# Altium schematic symbol library SchLib_AirMeter.SchLib: 49 symbols
Pins are listed as number, name and electrical type; pins without a type are passive.

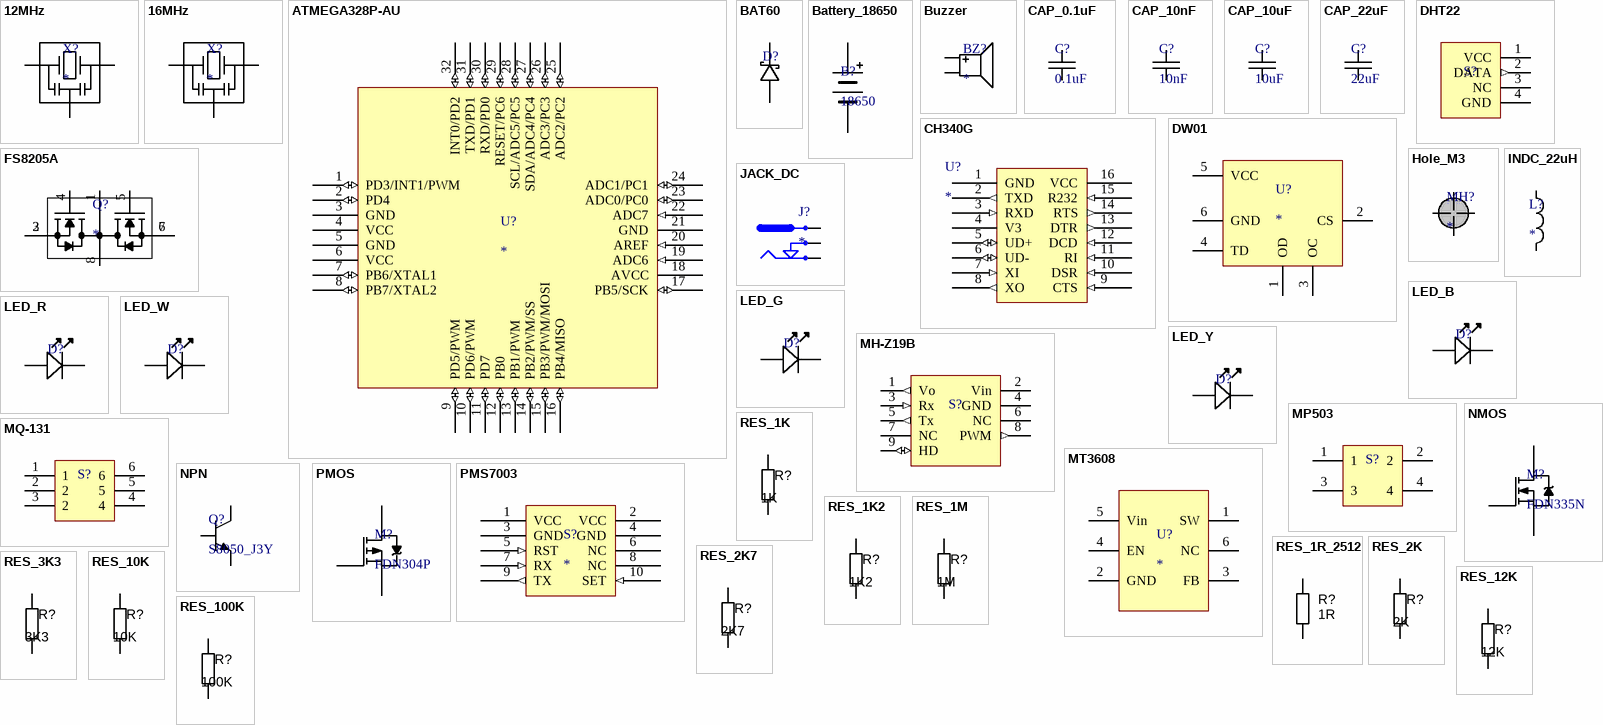
[diagram p0: symbols 12MHz to RES_100K]

## 12MHz
designator X?
Crystal Oscillator
footprint XTAL_3.2x1.6
pins: 1 IN, 2 GND, 3 OUT

## 16MHz
designator X?
Crystal Oscillator
footprint XTAL_3.2x1.6
pins: 1 IN, 2 GND, 3 OUT

## ATMEGA328P-AU
designator U?
footprint ATMEGA328P-AU
pins: 1 PD3/INT1/PWM (io), 2 PD4 (io), 3 GND (power), 4 VCC (power), 5 GND (power), 6 VCC (power), 7 PB6/XTAL1 (io), 8 PB7/XTAL2 (io), 9 PD5/PWM (io), 10 PD6/PWM (io), 11 PD7 (io), 12 PB0 (io), 13 PB1/PWM (io), 14 PB2/PWM/SS (io), 15 PB3/PWM/MOSI (io), 16 PB4/MISO (io), 17 PB5/SCK (io), 18 AVCC (power), 19 ADC6 (in), 20 AREF (in), 21 GND (power), 22 ADC7 (in), 23 ADC0/PC0 (io), 24 ADC1/PC1 (io), 25 ADC2/PC2 (io), 26 ADC3/PC3 (io), 27 SDA/ADC4/PC4 (io), 28 SCL/ADC5/PC5 (io), 29 RESET/PC6 (io), 30 RXD/PD0 (io), 31 TXD/PD1 (io), 32 INT0/PD2 (io)

## BAT60
designator D?
Schottky Diode 3A, Vf~0.24V, Vr=10V
footprint SOD323 (SOD-323; 2 Leads; Body 1.8 x 1.35 mm, (LxW))
pins: A, K

## Battery_18650
designator B?, comment 18650
footprint BAT_18650
pins: 1 B+ (power), 2 B+ (power)

## Buzzer
designator BZ?
Buzzer passive 5 VAC
footprint BZ_12085 (Passive Buzzer 12x8.5)
pins: 1 Positive, 2 Negative

## CAP_0.1uF
designator C?, comment 0.1uF
SMD 0805
footprint CAP_0805
pins: 1, 2

## CAP_10nF
designator C?, comment 10nF
SMD 0805
footprint CAP_0805
pins: 1, 2

## CAP_10uF
designator C?, comment 10uF
SMD 0805
footprint CAP_0805
pins: 1, 2

## CAP_22uF
designator C?, comment 22uF
SMD 1206
footprint CAP_1206
pins: 1, 2

## CH340G
designator U?
footprint CH340G
pins: 1 GND (power) "Ground reference of the chip.", 2 TXD (out) "UART data transmit output", 3 RXD (in) "UART data receive input.", 4 V3 (power) "Internal 3.3V reference fot USB physical layer. Decouple with a 4.7-20nF capacitor when in 5V operation, or tie to VCC when in 3.3V operation", 5 UD+ (io) "USB D+ signal.", 6 UD- (io) "UBS D- signal.", 7 XI (in) "Input of the crystal osctillator. Connect to the crystal resonator and load capacitors.", 8 XO (out) "Output of the crystal osctillator. Connect to the crystal resonator and load capacitors.", 9 CTS (in) "UART flow control signal Clear to Send", 10 DSR (in) "UART flow control signal Data Set Ready.", 11 RI (in) "UART flow control signal Ring In.", 12 DCD (in) "UART flow control signal Data Carrier Detect", 13 DTR (out) "UART flow control signal Data Terminal Ready.", 14 RTS (out) "UART flow control signal Request to Send", 15 R232 (in) "Auxiliary RS232 enable. Active high, internal pull down.", 16 VCC (power) "Supply rail for the chip."

## DHT22
designator S?
footprint DHT22
pins: 1 VCC (power), 2 DATA (out), 3 NC (power), 4 GND (power)

## DW01
designator U?
footprint SOT23-6
pins: 1 OD (power), 2 CS (power), 3 OC (power), 4 TD (power), 5 VCC (power), 6 GND (power)

## FS8205A
designator Q?
NMOS, Drain-Connected, Imax 6A
footprint TSSOP65P640X120-8N (TSSOP, 8 Leads, Body 3.1x4.5mm (max), Pitch 0.65mm, IPC Medium Density)
pins: 1 D12, 2 S1, 3 S1, 4 G1, 5 G2, 6 S1, 7 S1, 8 D12

## Hole_M3
designator MH?
footprint Hole_M3
pins: MH

## INDC_22uH
designator L?
footprint IND_10x10
pins: 1, 2

## JACK_DC
designator J?
footprint DC-004
pins: 1, 2, 3

## LED_B
designator D?
SMD_0805 3V
footprint LED_0805
pins: A, K

## LED_G
designator D?
SMD_0805 3V
footprint LED_0805
pins: A, K

## LED_R
designator D?
SMD_0805 2V
footprint LED_0805
pins: A, K

## LED_W
designator D?
SMD_0805 3V
footprint LED_0805
pins: A, K

## LED_Y
designator D?
SMD_0805 2.4V
footprint LED_0805
pins: A, K

## MH-Z19B
designator S?
CO2 Sensor
footprint MH-Z19B CO2 Sensor
pins: 1 Vo (out), 2 Vin (power), 3 Rx (in), 4 GND (power), 5 Tx (out), 6 NC, 7 NC, 8 PWM (out), 9 HD (io)

## MP503
designator S?
VOC Sensor
footprint MP503 VOC Sensor
pins: 1, 2, 3, 4

## MQ-131
designator S?
Ozone Sensor
footprint MQ-131 Ozone Sensor
pins: 1, 2, 3 2, 4, 5, 6

## MT3608
designator U?
Boost Converter
footprint SOT23-6
pins: 1 SW (power), 2 GND (power), 3 FB (power), 4 EN (power), 5 Vin (power), 6 NC (power)

## NMOS
designator M?, comment FDN335N
footprint SOT23_213
pins: 1 G, 2 S, 3 D

## NPN
designator Q?, comment S8050_J3Y
footprint SOT23_213
pins: 1 B, 2 E, 3 C

## PMOS
designator M?, comment FDN304P
footprint SOT23_213
pins: 1 G, 2 S, 3 D

## PMS7003
designator S?
Particle air sensor. 1um, 2.5um, 10um
footprint PMS7003
pins: 1 VCC (power), 2 VCC (power), 3 GND (power), 4 GND (power), 5 RST (in), 6 NC, 7 RX (in), 8 NC, 9 TX (out), 10 SET (in)

## RES_1K
designator R?, comment 1K
Resistor SMD, 1206; Value: N/A
footprint RESC3216X70N (Chip Resistor, Body 3.2x1.6mm, EIA 1206, IPC Medium Density)
pins: 1, 2

## RES_1K2
designator R?, comment 1K2
Resistor SMD, 1206; Value: N/A
footprint RESC3216X70N (Chip Resistor, Body 3.2x1.6mm, EIA 1206, IPC Medium Density)
pins: 1, 2

## RES_1M
designator R?, comment 1M
Resistor SMD, 1206; Value: N/A
footprint RESC3216X70N (Chip Resistor, Body 3.2x1.6mm, EIA 1206, IPC Medium Density)
pins: 1, 2

## RES_1R_2512
designator R?  value 1R  (hidden comment: *)
Resistor SMD 1Ω ±5% 2W ±400ppm/℃ 2512; Ratings: 1W; SCDType: spec; Tolerance: ±5%; Material: Thick Film; Package / Case: 2512 (6332 metric)
footprint RESC6332X70N (Chip Resistor, Body 6.3x3.2mm, 2512, IPC Medium Density)
pins: 1, 2

## RES_2K
designator R?, comment 2K
Resistor SMD, 1206; Value: N/A
footprint RESC3216X70N (Chip Resistor, Body 3.2x1.6mm, EIA 1206, IPC Medium Density)
pins: 1, 2

## RES_2K7
designator R?, comment 2K7
Resistor SMD, 1206; Value: N/A
footprint RESC3216X70N (Chip Resistor, Body 3.2x1.6mm, EIA 1206, IPC Medium Density)
pins: 1, 2

## RES_3K3
designator R?, comment 3K3
Resistor SMD, 1206; Value: N/A
footprint RESC3216X70N (Chip Resistor, Body 3.2x1.6mm, EIA 1206, IPC Medium Density)
pins: 1, 2

## RES_10K
designator R?, comment 10K
Resistor SMD, 1206; Value: N/A
footprint RESC3216X70N (Chip Resistor, Body 3.2x1.6mm, EIA 1206, IPC Medium Density)
pins: 1, 2

## RES_12K
designator R?, comment 12K
Resistor SMD, 1206; Value: N/A
footprint RESC3216X70N (Chip Resistor, Body 3.2x1.6mm, EIA 1206, IPC Medium Density)
pins: 1, 2

## RES_100K
designator R?, comment 100K
Resistor SMD, 1206; Value: N/A
footprint RESC3216X70N (Chip Resistor, Body 3.2x1.6mm, EIA 1206, IPC Medium Density)
pins: 1, 2

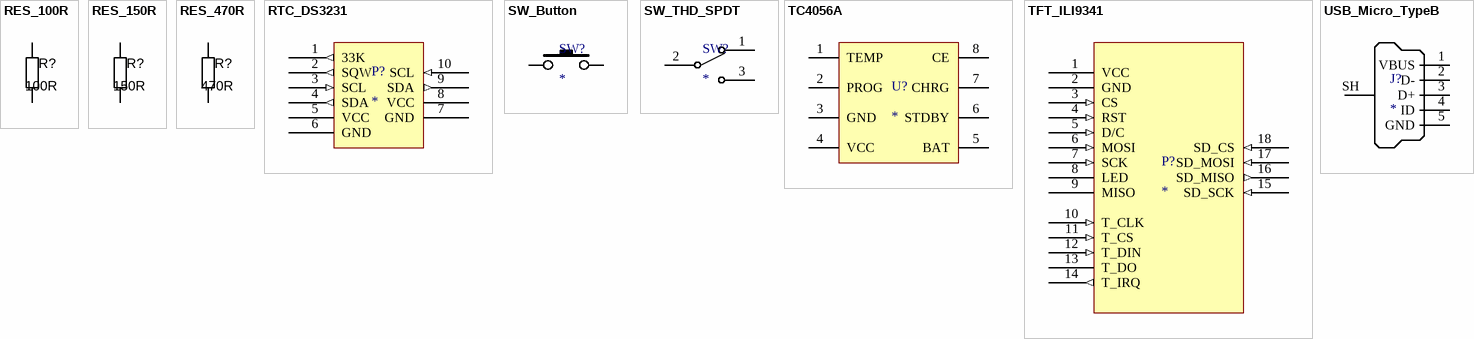
[diagram p1: symbols RES_100R to USB_Micro_TypeB]

## RES_100R
designator R?, comment 100R
Resistor SMD, 1206; Value: N/A
footprint RESC3216X70N (Chip Resistor, Body 3.2x1.6mm, EIA 1206, IPC Medium Density)
pins: 1, 2

## RES_150R
designator R?, comment 150R
Resistor SMD, 1206; Value: N/A
footprint RESC3216X70N (Chip Resistor, Body 3.2x1.6mm, EIA 1206, IPC Medium Density)
pins: 1, 2

## RES_470R
designator R?, comment 470R
Resistor SMD, 1206; Value: N/A
footprint RESC3216X70N (Chip Resistor, Body 3.2x1.6mm, EIA 1206, IPC Medium Density)
pins: 1, 2

## RTC_DS3231
designator P?
Real Time Clock
footprint DS3231 RTC
pins: 1 33K (out), 2 SQW (out), 3 SCL (in), 4 SDA (out), 5 VCC (power), 6 GND (power), 7 GND (power), 8 VCC (power), 9 SDA (out), 10 SCL (in)

## SW_Button
designator SW?
footprint Button_4x4x1.5
pins: 1, 2

## SW_THD_SPDT
designator SW?
Switch 2 position
footprint 3P_header
pins: 1, 2, 3

## TC4056A
designator U?
footprint SOIC127P600X175-8AN (SOIC, 8-Leads, Body 4.9x3.9mm, Pitch 1.27mm, IPC Medium Density)
pins: 1 TEMP (power), 2 PROG, 3 GND (power), 4 VCC (power), 5 BAT (power), 6 STDBY (power), 7 CHRG (power), 8 CE (power)

## TFT_ILI9341
designator P?
footprint TFT_ILI9341
pins: 1 VCC (power), 2 GND (power), 3 CS (in), 4 RST (in), 5 D/C (in), 6 MOSI (in), 7 SCK (in), 8 LED (power), 9 MISO, 10 T_CLK (in), 11 T_CS (in), 12 T_DIN (in), 13 T_DO, 14 T_IRQ (out), 15 SD_SCK (in), 16 SD_MISO (out), 17 SD_MOSI (in), 18 SD_CS (in)

## USB_Micro_TypeB
designator J?
footprint USB_Micro_TypeB
pins: 1 VBUS, 2 D-, 3 D+, 4 ID, 5 GND, SH Shell